# EAGLE library part PIC18F8*J60 (library microchip)
PIC18 with Ether Module
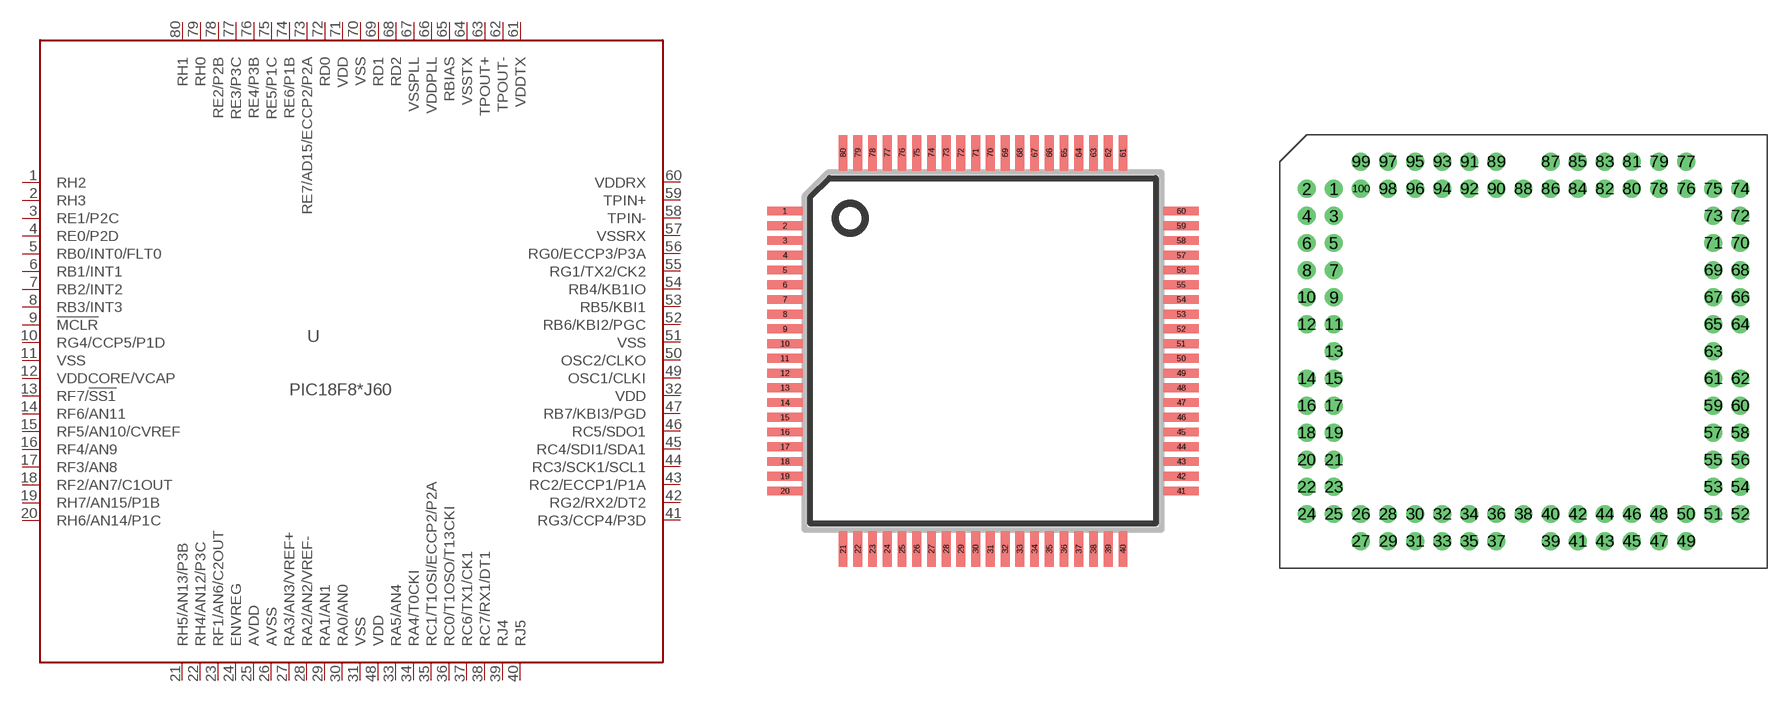
[diagram p29: symbol with the pads of TQFP80-12X12; footprints TQFP80-12X12, ICB-020]

Designator prefix U

## PIC18F86J60TQFP, PIC18F87J60TQFP  [TQFP80-12X12]
1  RH2
2  RH3
3  RE1/P2C
4  RE0/P2D
5  RB0/INT0/FLT0
6  RB1/INT1
7  RB2/INT2
8  RB3/INT3
9  !MCLR  in
10  RG4/CCP5/P1D
11  VSS  pwr
12  VDDCORE/VCAP  pwr
13  RF7/!SS1
14  RF6/AN11
15  RF5/AN10/CVREF
16  RF4/AN9
17  RF3/AN8
18  RF2/AN7/C1OUT
19  RH7/AN15/P1B
20  RH6/AN14/P1C
21  RH5/AN13/P3B
22  RH4/AN12/P3C
23  RF1/AN6/C2OUT
24  ENVREG  in
25  AVDD  pwr
26  AVSS  pwr
27  RA3/AN3/VREF+
28  RA2/AN2/VREF-
29  RA1/AN1
30  RA0/AN0
31  VSS  pwr
32  VDD  pwr
33  RA5/AN4
34  RA4/T0CKI
35  RC1/T1OSI/ECCP2/P2A
36  RC0/T1OSO/T13CKI
37  RC6/TX1/CK1
38  RC7/RX1/DT1
39  RJ4
40  RJ5
41  RG3/CCP4/P3D
42  RG2/RX2/DT2
43  RC2/ECCP1/P1A
44  RC3/SCK1/SCL1
45  RC4/SDI1/SDA1
46  RC5/SDO1
47  RB7/KBI3/PGD
48  VDD  pwr
49  OSC1/CLKI  in
50  OSC2/CLKO  out
51  VSS  pwr
52  RB6/KBI2/PGC
53  RB5/KBI1
54  RB4/KB1IO
55  RG1/TX2/CK2
56  RG0/ECCP3/P3A
57  VSSRX
58  TPIN-
59  TPIN+
60  VDDRX
61  VDDTX
62  TPOUT-
63  TPOUT+
64  VSSTX
65  RBIAS
66  VDDPLL
67  VSSPLL
68  RD2
69  RD1
70  VSS  pwr
71  VDD  pwr
72  RD0
73  RE7/AD15/ECCP2/P2A
74  RE6/P1B
75  RE5/P1C
76  RE4/P3B
77  RE3/P3C
78  RE2/P2B
79  RH0
80  RH1

## PIC18F86J60ICB20, PIC18F87J60ICB20  [ICB-020]
3  RH2
4  RH3
5  RE1/P2C
6  RE0/P2D
7  RB0/INT0/FLT0
8  RB1/INT1
9  RB2/INT2
10  RB3/INT3
11  !MCLR  in
12  RG4/CCP5/P1D
13  VSS  pwr
14  VDDCORE/VCAP  pwr
15  RF7/!SS1
16  RF6/AN11
17  RF5/AN10/CVREF
18  RF4/AN9
19  RF3/AN8
20  RF2/AN7/C1OUT
21  RH7/AN15/P1B
22  RH6/AN14/P1C
28  RH5/AN13/P3B
29  RH4/AN12/P3C
30  RF1/AN6/C2OUT
31  ENVREG  in
32  AVDD  pwr
33  AVSS  pwr
34  RA3/AN3/VREF+
35  RA2/AN2/VREF-
36  RA1/AN1
37  RA0/AN0
38  VSS  pwr
39  VDD  pwr
40  RA5/AN4
41  RA4/T0CKI
42  RC1/T1OSI/ECCP2/P2A
43  RC0/T1OSO/T13CKI
44  RC6/TX1/CK1
45  RC7/RX1/DT1
46  RJ4
47  RJ5
54  RG3/CCP4/P3D
55  RG2/RX2/DT2
56  RC2/ECCP1/P1A
57  RC3/SCK1/SCL1
58  RC4/SDI1/SDA1
59  RC5/SDO1
60  RB7/KBI3/PGD
61  VDD  pwr
62  OSC1/CLKI  in
63  OSC2/CLKO  out
64  VSS  pwr
65  RB6/KBI2/PGC
66  RB5/KBI1
67  RB4/KB1IO
68  RG1/TX2/CK2
69  RG0/ECCP3/P3A
70  VSSRX
71  TPIN-
72  TPIN+
73  VDDRX
78  VDDTX
79  TPOUT-
80  TPOUT+
81  VSSTX
82  RBIAS
83  VDDPLL
84  VSSPLL
85  RD2
86  RD1
87  VSS  pwr
88  VDD  pwr
89  RD0
90  RE7/AD15/ECCP2/P2A
91  RE6/P1B
92  RE5/P1C
93  RE4/P3B
94  RE3/P3C
95  RE2/P2B
96  RH0
97  RH1

## Footprint TQFP80-12X12 (pad centres in mm)
TQFP80 12x12x1 mm Body Source: http://www.microchip.com/ .. 39663c.pdf
smd 1.2 x 0.3: 1 -6.725,4.75; 2 -6.725,4.25; 3 -6.725,3.75; 4 -6.725,3.25; 5 -6.725,2.75; 6 -6.725,2.25; 7 -6.725,1.75; 8 -6.725,1.25; 9 -6.725,0.75; 10 -6.725,0.25; 11 -6.725,-0.25; 12 -6.725,-0.75; 13 -6.725,-1.25; 14 -6.725,-1.75; 15 -6.725,-2.25; 16 -6.725,-2.75; 17 -6.725,-3.25; 18 -6.725,-3.75; 19 -6.725,-4.25; 20 -6.725,-4.75; 41 6.725,-4.75; 42 6.725,-4.25; 43 6.725,-3.75; 44 6.725,-3.25; 45 6.725,-2.75; 46 6.725,-2.25; 47 6.725,-1.75; 48 6.725,-1.25; 49 6.725,-0.75; 50 6.725,-0.25; 51 6.725,0.25; 52 6.725,0.75; 53 6.725,1.25; 54 6.725,1.75; 55 6.725,2.25; 56 6.725,2.75; 57 6.725,3.25; 58 6.725,3.75; 59 6.725,4.25; 60 6.725,4.75
smd 0.3 x 1.2: 21 -4.75,-6.725; 22 -4.25,-6.725; 23 -3.75,-6.725; 24 -3.25,-6.725; 25 -2.75,-6.725; 26 -2.25,-6.725; 27 -1.75,-6.725; 28 -1.25,-6.725; 29 -0.75,-6.725; 30 -0.25,-6.725; 31 0.25,-6.725; 32 0.75,-6.725; 33 1.25,-6.725; 34 1.75,-6.725; 35 2.25,-6.725; 36 2.75,-6.725; 37 3.25,-6.725; 38 3.75,-6.725; 39 4.25,-6.725; 40 4.75,-6.725; 61 4.75,6.725; 62 4.25,6.725; 63 3.75,6.725; 64 3.25,6.725; 65 2.75,6.725; 66 2.25,6.725; 67 1.75,6.725; 68 1.25,6.725; 69 0.75,6.725; 70 0.25,6.725; 71 -0.25,6.725; 72 -0.75,6.725; 73 -1.25,6.725; 74 -1.75,6.725; 75 -2.25,6.725; 76 -2.75,6.725; 77 -3.25,6.725; 78 -3.75,6.725; 79 -4.25,6.725; 80 -4.75,6.725

## Footprint ICB-020 (pad centres in mm)
drill 0.5 pad 1.676 round: 1 -17.78,15.24; 2 -20.32,15.24; 3 -17.78,12.7; 4 -20.32,12.7; 5 -17.78,10.16; 6 -20.32,10.16; 7 -17.78,7.62; 8 -20.32,7.62; 9 -17.78,5.08; 10 -20.32,5.08; 11 -17.78,2.54; 12 -20.32,2.54; 13 -17.78,0; 14 -20.32,-2.54; 15 -17.78,-2.54; 16 -20.32,-5.08; 17 -17.78,-5.08; 18 -20.32,-7.62; 19 -17.78,-7.62; 20 -20.32,-10.16; 21 -17.78,-10.16; 22 -20.32,-12.7; 23 -17.78,-12.7; 24 -20.32,-15.24; 25 -17.78,-15.24; 26 -15.24,-15.24; 27 -15.24,-17.78; 28 -12.7,-15.24; 29 -12.7,-17.78; 30 -10.16,-15.24; 31 -10.16,-17.78; 32 -7.62,-15.24; 33 -7.62,-17.78; 34 -5.08,-15.24; 35 -5.08,-17.78; 36 -2.54,-15.24; 37 -2.54,-17.78; 38 0,-15.24; 39 2.54,-17.78; 40 2.54,-15.24; 41 5.08,-17.78; 42 5.08,-15.24; 43 7.62,-17.78; 44 7.62,-15.24; 45 10.16,-17.78; 46 10.16,-15.24; 47 12.7,-17.78; 48 12.7,-15.24; 49 15.24,-17.78; 50 15.24,-15.24; 51 17.78,-15.24; 52 20.32,-15.24; 53 17.78,-12.7; 54 20.32,-12.7; 55 17.78,-10.16; 56 20.32,-10.16; 57 17.78,-7.62; 58 20.32,-7.62; 59 17.78,-5.08; 60 20.32,-5.08; 61 17.78,-2.54; 62 20.32,-2.54; 63 17.78,0; 64 20.32,2.54; 65 17.78,2.54; 66 20.32,5.08; 67 17.78,5.08; 68 20.32,7.62; 69 17.78,7.62; 70 20.32,10.16; 71 17.78,10.16; 72 20.32,12.7; 73 17.78,12.7; 74 20.32,15.24; 75 17.78,15.24; 76 15.24,15.24; 77 15.24,17.78; 78 12.7,15.24; 79 12.7,17.78; 80 10.16,15.24; 81 10.16,17.78; 82 7.62,15.24; 83 7.62,17.78; 84 5.08,15.24; 85 5.08,17.78; 86 2.54,15.24; 87 2.54,17.78; 88 0,15.24; 89 -2.54,17.78; 90 -2.54,15.24; 91 -5.08,17.78; 92 -5.08,15.24; 93 -7.62,17.78; 94 -7.62,15.24; 95 -10.16,17.78; 96 -10.16,15.24; 97 -12.7,17.78; 98 -12.7,15.24; 99 -15.24,17.78; 100 -15.24,15.24